# EAGLE library part LP2951ACSDX/NOPB (library circuit_tree)
IC
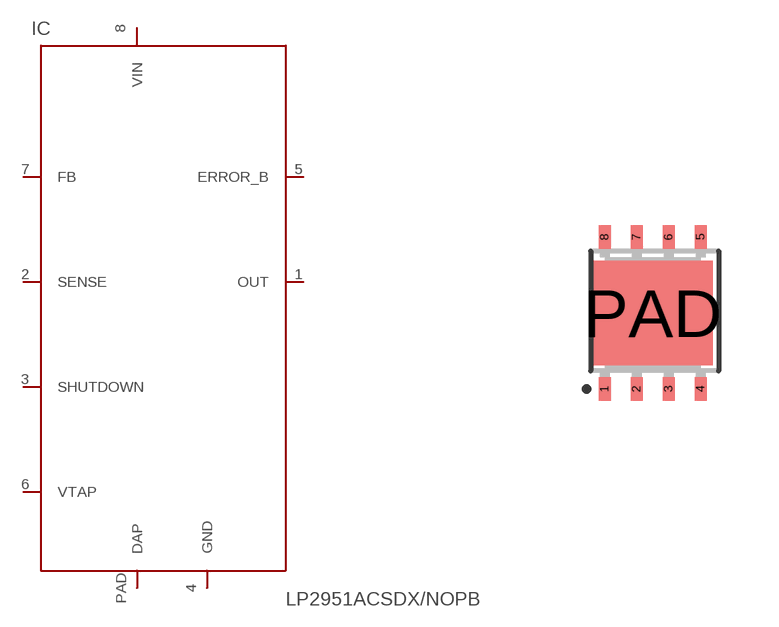
[diagram p7: symbol with the pads of WSON-8; footprint WSON-8]

Designator prefix IC

## LP2951ACSDX/NOPB  [WSON-8]
1  OUT  pas
2  SENSE  pas
3  SHUTDOWN  pas
4  GND  pas
5  ERROR_B  pas
6  VTAP  pas
7  FB  pas
8  VIN  pas
PAD  DAP  pas

## Footprint WSON-8 (pad centres in mm)
smd 0.3 x 0.6: 1 -0.75,0; 2 0.05,0; 3 0.85,0; 4 1.65,0; 5 1.65,3.8; 6 0.85,3.8; 7 0.05,3.8; 8 -0.75,3.8
smd 3 x 2.6: PAD 0.45,1.9